# EAGLE library part TS5A23159 (library TS5A23159)
Texas Instruments TS5A23159 Dual SPDT Analog Switch Datasheet: http://www.ti.com/lit/ds/scds201g/scds201g.pdf
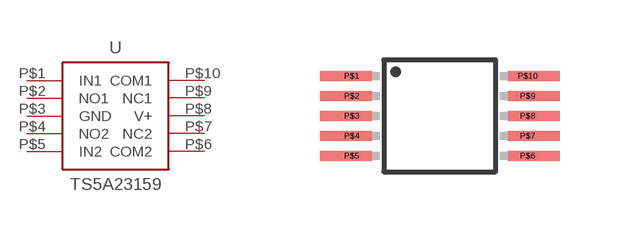
[diagram p0: symbol with the pads of 10MSOP; footprint 10MSOP]

Designator prefix U

## TS5A23159-10MSOP  [10MSOP]
P$1  IN1  in
P$2  NO1
P$3  GND  pwr
P$4  NO2
P$5  IN2  in
P$6  COM2
P$7  NC2
P$8  V+  pwr
P$9  NC1
P$10  COM1

## Footprint 10MSOP (pad centres in mm)
smd 0.406 x 0.203: P$1 -2.2,1; P$2 -2.2,0.5; P$3 -2.2,0; P$4 -2.2,-0.5; P$5 -2.2,-1; P$6 2.2,-1; P$7 2.2,-0.5; P$8 2.2,0; P$9 2.2,0.5; P$10 2.2,1